# EAGLE library part WSSFM10R (library WisolWSSFM10R)
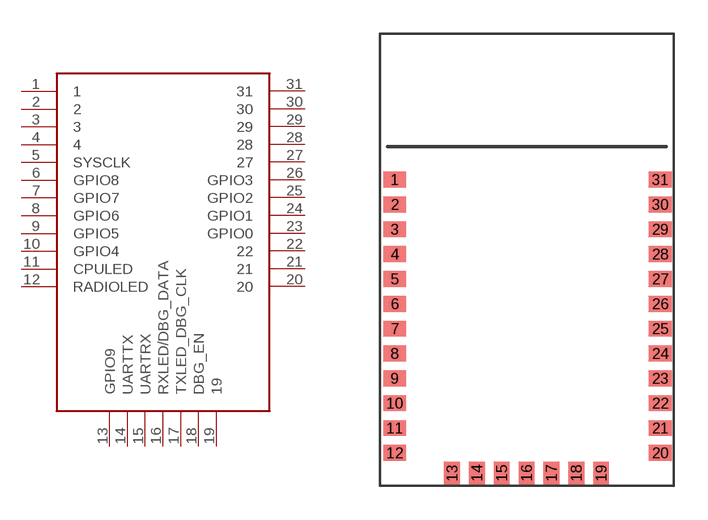
[diagram p0: symbol with the pads of WSSFM10R; footprint WSSFM10R]

Designator prefix -

## WSSFM10RWSSFM10R2R4  [WSSFM10R]
1  1
2  2
3  3
4  4
5  SYSCLK
6  GPIO8
7  GPIO7
8  GPIO6
9  GPIO5
10  GPIO4
11  CPULED
12  RADIOLED
13  GPIO9
14  UARTTX
15  UARTRX
16  RXLED/DBG_DATA
17  TXLED_DBG_CLK
18  DBG_EN
19  19
20  20
21  21
22  22
23  GPIO0
24  GPIO1
25  GPIO2
26  GPIO3
27  27
28  28
29  29
30  30
31  31

## Footprint WSSFM10R (pad centres in mm)
Wisol WSSFM10R2 and R4 use taller footprint; Wisol WSSFM10R1 and R3 use shorter footprint
smd 1 x 0.7: 1 0.65,13.55; 2 0.65,12.45; 3 0.65,11.35; 4 0.65,10.25; 5 0.65,9.15; 6 0.65,8.05; 7 0.65,6.95; 8 0.65,5.85; 9 0.65,4.75; 10 0.65,3.65; 11 0.65,2.55; 12 0.65,1.45; 20 12.4,1.45; 21 12.4,2.55; 22 12.4,3.65; 23 12.4,4.75; 24 12.4,5.85; 25 12.4,6.95; 26 12.4,8.05; 27 12.4,9.15; 28 12.4,10.25; 29 12.4,11.35; 30 12.4,12.45; 31 12.4,13.55
smd 0.7 x 1: 13 3.18,0.56; 14 4.28,0.56; 15 5.38,0.56; 16 6.48,0.56; 17 7.58,0.56; 18 8.68,0.56; 19 9.78,0.56